# Altium footprint library PC JACK.PcbLib: 36 footprints (part 1 of 3)
Each footprint in its own frame and in the unit in brackets; x right, y up, seen from the top. Pads: shape width x height; smd on the part's side, far side on the other; paste and mask are expansions set on the pad; w line width, h text height; cw(c..) or ccw(c..) is an arc to the next point about the centre after c.
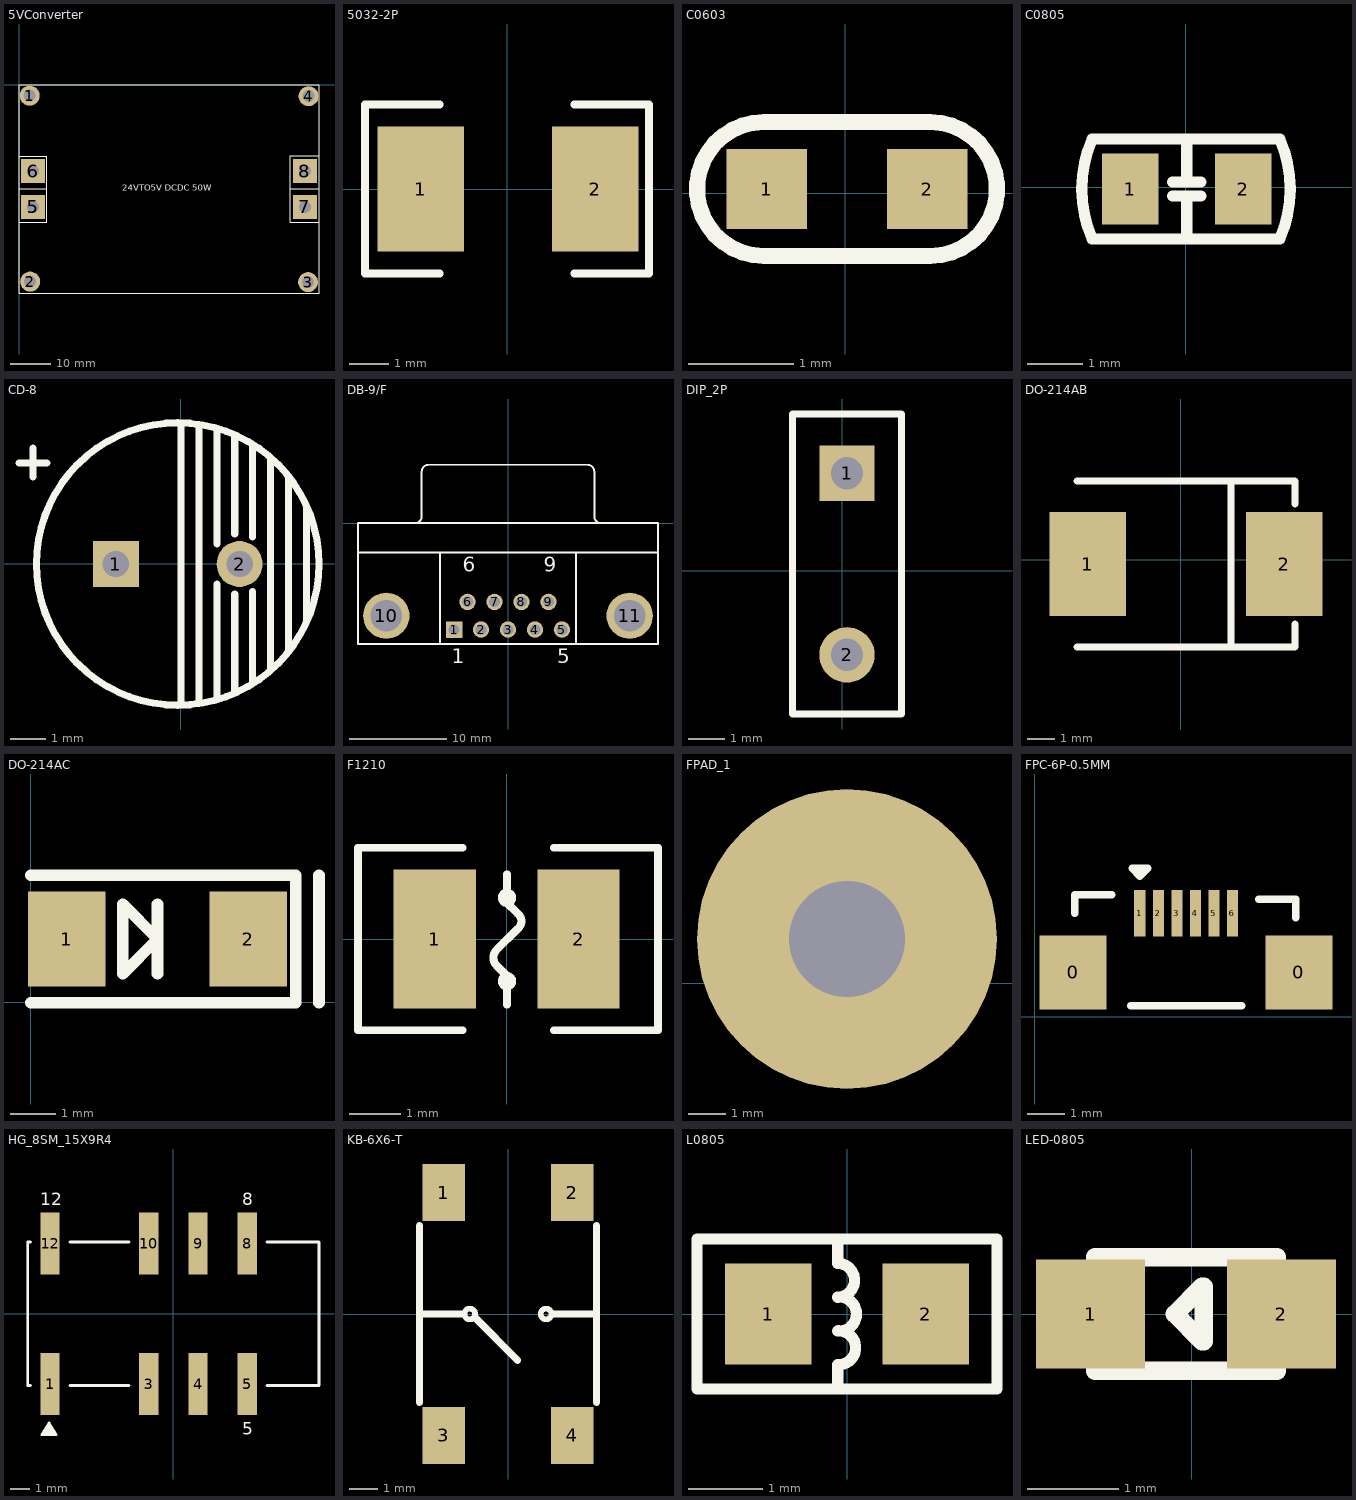
[diagram p0: the footprints below, top view; thin cyan lines are the x and y axes]

## 5VConverter [mm]
height 18
pads (8):
  round 5 hole 3: 1(2.667,-2.667) 2(2.794,-49.149) 3(72.263,-49.276) 4(72.39,-2.794)
  rect 6x6 hole 3: 5(3.5,-30.5) 6(3.5,-21.5) 7(71.5,-30.5) 8(71.5,-21.5)
Top Overlay:
  lines w0.254: 0,-26 6.985,-26 ; 0,-17.78 6.985,-17.78 6.985,-26 ; 0.127,-34.29 6.985,-34.29 6.985,-26 ; 75,-34.29 67.818,-34.29 67.818,-26 ; 75,-26 67.818,-26 ; 75,-17.653 67.818,-17.653 67.818,-26 ; 0,-52 0,0 75,0 75,-52 0,-52
  text "24VTO5V DCDC 50W" at 25.781,-26.416 h1.52

## 5032-2P [mm]
height 8.39
pads (2):
  rect 2.2x3.2 smd: 1(-2.2,0) 2(2.25,0)
Top Overlay:
  lines w0.2: -1.714,-2.159 -3.619,-2.159 -3.619,2.159 -1.714,2.159 ; 1.715,-2.159 3.62,-2.159 3.62,2.159 1.715,2.159

## C0603 [mil]
height 78.74
pads (2):
  rect 30x30 smd: 1(-29.29,1.57) 2(30.71,1.57)
Top Overlay:
  lines w6: -19.29,26.57 -30.29,26.57 ccw(c-30.29,1.57) -30.29,-23.43 20.4,-23.43 ; -18.98,26.57 31.71,26.57 cw(c31.71,1.57) 31.71,-23.43 20.71,-23.43

## C0805 [mm]
height 2
pads (2):
  rect 1.016x1.27 smd: 1(-1.002,-0.03) 2(1.03,-0.03)
Top Overlay:
  lines w0.203: -1.688,-0.931 cw(c0.414,-0.03) -1.688,0.871 1.69,0.87 cw(c-0.411,-0.03) 1.69,-0.931 ; -1.688,-0.93 1.69,-0.93 ; -0.24,-0.157 0.268,-0.157 ; -0.24,0.097 0.268,0.097 ; 0.014,-0.919 0.014,-0.157 ; 0.014,0.097 0.014,0.859

## CD-8 [mm]
height 2
pads (2):
  rect 1.3x1.3 hole 0.75: 1(-1.84,-0.01)
  round 1.3 hole 0.75: 2(1.66,-0.01)
Top Overlay:
  circle w0.2: c-0.09,-0.01 r4
  lines w0.2: -4.584,2.848 -3.789,2.848 ; -4.191,2.454 -4.191,3.277 ; 0,-3.988 0,3.988 ; 0.508,-3.962 0.508,3.937 ; 1.016,-3.835 1.016,-0.584 ; 1.016,0.559 1.016,3.81 ; 1.524,-3.658 1.524,-0.864 ; 1.524,0.838 1.524,3.632 ; 2.032,-3.378 2.032,-0.787 ; 2.032,0.762 2.032,3.378 ; 2.54,-2.997 2.54,2.997 ; 3.048,-2.464 3.048,2.438 ; 3.556,-1.651 3.556,1.626

## DB-9/F [mm]
height 12.75
pads (11):
  rect 1.69x1.69 hole 1.09: 1(-5.54,-10.92)
  round 1.69 hole 1.09: 2(-2.77,-10.92) 3(0,-10.92) 4(2.77,-10.92) 5(5.54,-10.92) 6(-4.155,-8.08) 7(-1.385,-8.08) 8(1.385,-8.08) 9(4.155,-8.08)
  round 4.76 hole 3.26: 10(-12.495,-9.5) 11(12.495,-9.5)
Top Overlay:
  lines w0.2: -15.4,-3 15.4,-3 ; -9.56,0.005 ccw(c-9.56,0.7) -8.865,0.7 -8.865,5.3 ; -8.86,5.305 cw(c-8.165,5.305) -8.165,6 8.165,6 cw(c8.165,5.305) 8.86,5.305 ; -7,-12.4 -7,-3 ; 7,-12.4 7,-3 ; 8.865,5.3 8.865,0.7 ccw(c9.56,0.7) 9.56,0.005 ; -15.4,-12.4 15.4,-12.4 15.4,0 -15.4,0 -15.4,-12.4
  text "6" at -4.655,-4.975 h1.5
  text "9" at 3.655,-4.975 h1.5
  text "5" at 5.04,-14.375 h1.5
  text "1" at -5.79,-14.375 h1.5

## DIP_2P [mil]
pads (2):
  rect 60x60 hole 35: 1(4.93,105.6)
  round 60 hole 35: 2(4.93,-91.26)
Top Overlay:
  lines w7.87: -54.13,-155.33 63.98,-155.33 63.98,169.67 -54.13,169.67 -54.13,-155.33

## DO-214AB [mm]
height 2
pads (2):
  rect 2.8x3.8 smd: 1(-3.405,-0.164) 2(3.795,-0.164)
Top Overlay:
  lines w0.254: -3.805,-3.214 4.195,-3.214 4.195,-2.364 ; -3.805,2.886 4.195,2.886 4.195,2.036 ; 1.85,-3.191 1.85,2.862

## DO-214AC [mm]
height 2
pads (2):
  rect 1.7x2.1 smd: 1(0.794,1.397) 2(4.794,1.397)
Top Overlay:
  lines w0.254: 0,-0.003 5.842,-0.003 5.842,2.797 0,2.797 ; 2.794,0.635 2.794,2.159 ; 6.35,-0.003 6.35,2.797 ; 2.032,0.635 2.032,2.159 2.794,1.397 2.032,0.635

## F1210 [mm] "Chip Capacitor; Body 3.2 x 2.5 mm (LxW typ)"
height 1.35
pads (2):
  rect 1.6x2.7 smd: 1(-1.4,0) 2(1.4,0)
Top Overlay:
  circle w0.152: c0.006,-0.822 r0.102
  circle w0.152: c0.006,0.804 r0.102
  lines w0.152: -0.864,-1.778 -2.896,-1.778 -2.896,1.778 -0.864,1.778 ; 0.006,-1.279 0.006,-0.873 ; 0.006,-0.72 -0.197,-0.517 cw(c-0.045,-0.365) -0.197,-0.212 0.209,0.194 ccw(c0.099,0.347) 0.209,0.499 0.006,0.702 ; 0.006,0.855 0.006,1.261 ; 0.92,-1.778 2.946,-1.778 2.946,1.778 0.92,1.778

## FPAD_1 [mm]
height 2
pads (1):
  round 8 hole 3.1: ""(14.828,1.174)

## FPC-6P-0.5MM [mm]
height 2
pads (8):
  rect 1.8x2 smd: 0(1.038,1.194) 0(7.131,1.194)
  rect 0.3x1.25 smd: 1(2.838,2.794) 2(3.338,2.794) 3(3.838,2.794) 4(4.338,2.794) 5(4.838,2.794) 6(5.338,2.794)
Top Overlay:
  lines w0.2: 1.088,2.794 1.088,3.294 2.088,3.294 ; 2.588,0.294 5.588,0.294 ; 2.84,3.791 2.63,4.001 3.058,4.001 2.854,3.797 ; 6.04,3.167 7.04,3.167 7.04,2.667

## HG_8SM_15X9R4 [mil] "HG_8SM_15X9R4"
pads (8):
  rect 39x126 smd: 1(-250,-142.52) 3(-50,-142.52) 4(50,-142.52) 5(150,-142.52) 8(150,142.52) 9(50,142.52) 10(-50,142.52) 12(-250,142.52)
Top Overlay:
  lines w5: -253,-231.5 -248,-231.5 -252,-225.5 -258,-234.5 -247,-234.5 -245,-237.5 -260,-237.5 -262,-241.5 -242,-241.5 -242,-245.5 -237,-245.5 ; -237,-245.5 -267,-245.5 -252,-220.5 -237,-245.5
  lines w6: -290,-145.67 -295.28,-145.67 -295.28,145.67 -290,145.67 ; -210,-145.67 -90,-145.67 ; -210,145.67 -90,145.67 ; 190,-145.67 295.28,-145.67 295.28,145.67 190,145.67
  text "5" at 140,-245 h25
  text "8" at 140,220 h25
  text "12" at -270,220 h25
Mechanical 12:
  lines w5: -295.28,-145.67 -295.28,145.67 ; 295.28,-145.67 295.28,145.67

## KB-6X6-T [mm]
height 2
pads (4):
  rect 1.5x2 smd: 1(-2.25,4.25) 2(2.25,4.25) 3(-2.25,-4.25) 4(2.25,-4.25)
Top Overlay:
  circle w0.2: c1.332,0 r0.188
  circle w0.2: c-1.338,0 r0.188
  lines w0.254: -3.1,-3.1 -3.1,3.1 ; -3.1,0 -1.55,0 ; -1.15,-0.13 0.335,-1.615 ; 1.55,0 3.1,0 ; 3.1,-3.1 3.1,3.1

## L0805 [mil]
pads (2):
  rect 46x54 smd: 1(-42,0) 2(42,0)
Top Overlay:
  lines w6: -5,-40 -5,-27 -4.62,-27 ccw(c-4.41,-18) -4.63,-8.99 ; -5,40 -5,27 ; -4.62,-9 -5,-9 ccw(c-4,0) -4.99,9.01 ; -4.99,9 ccw(c-4.99,18) -4.99,27 ; -5,9 -4.99,9 ; -5,27 -4.99,27 ; -80,-40 80,-40 80,40 -80,40 -80,-40

## LED-0805 [mm]
pads (2):
  rect 1.2x1.2 smd: 1(-1.116,0.003) 2(0.984,0.003)
Top Overlay:
  lines w0.2: 0.111,-0.297 -0.189,0.003 0.111,0.303 ; 0.13,-0.297 0.13,0.303 ; -1.066,-0.622 -1.066,0.628 0.934,0.628 0.934,-0.622 -1.066,-0.622